# Altium footprint library PC817.PcbLib: 1 footprints
Each footprint in its own frame and in the unit in brackets; x right, y up, seen from the top. Pads: shape width x height; smd on the part's side, far side on the other; paste and mask are expansions set on the pad; w line width, h text height; cw(c..) or ccw(c..) is an arc to the next point about the centre after c.
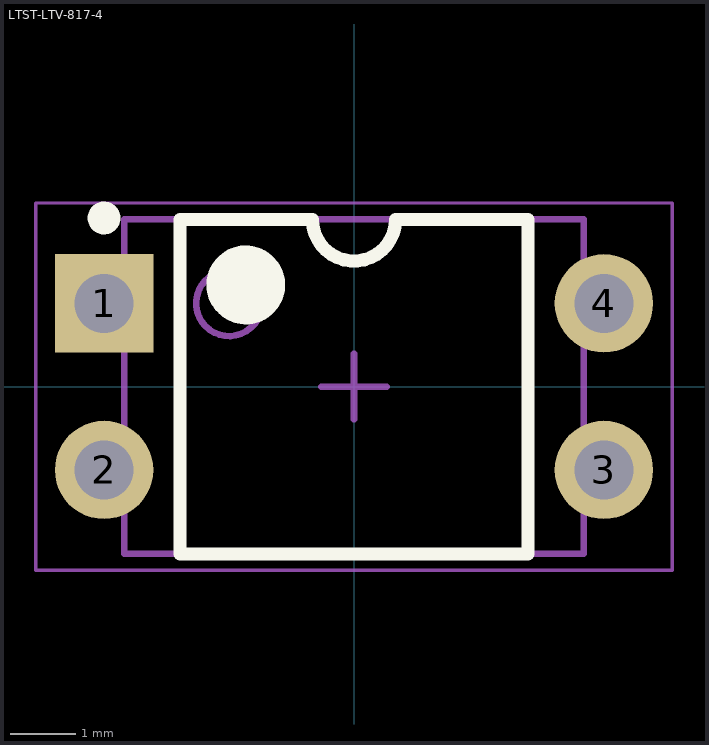
[diagram p0: the footprint, top view; thin cyan lines are the x and y axes]

## LTST-LTV-817-4 [mm] "DIP, 4-Leads, Body 7x5.1mm, Pitch 2.54mm"
height 4.5
pads (4):
  rect 1.5x1.5 hole 0.9: 1(-3.81,1.27)
  round 1.5 hole 0.9: 2(-3.81,-1.27) 3(3.81,-1.27) 4(3.81,1.27)
Top Overlay:
  circle w0.6: c-1.65,1.55 r0.3
  circle w0.25: c-3.81,2.57 r0.125
  lines w0.2: -2.65,-2.55 2.65,-2.55 2.65,2.55 0.635,2.55 cw(c0,2.55) -0.635,2.55 -2.65,2.55 -2.65,-2.55
Mechanical 13:
  circle w0.1: c-1.905,1.27 r0.5
  lines w0.1: -3.5,-2.55 3.5,-2.55 3.5,2.55 -3.5,2.55 -3.5,-2.55
Mechanical 15:
  lines w0.05: -4.85,-2.8 4.85,-2.8 4.85,2.8 -4.85,2.8 -4.85,-2.8
  lines w0.1: -0.5,0 0.5,0 ; 0,-0.5 0,0.5
3D body: height 4.5, standoff 0.5, extent -3.5,-2.55 3.5,2.55
3D body: height 0, standoff -1.6, extent 3.675,0.91 3.945,1.63
3D body: height 2.64, standoff 2.37, extent 3.5,0.77 3.945,1.77
3D body: height 2.37, standoff 0, extent 3.675,0.77 3.945,1.77
3D body: height 0, standoff -1.6, extent 3.675,-1.63 3.945,-0.91
3D body: height 2.64, standoff 2.37, extent 3.5,-1.77 3.945,-0.77
3D body: height 2.37, standoff 0, extent 3.675,-1.77 3.945,-0.77
3D body: height 0, standoff -1.6, extent -3.945,-1.63 -3.675,-0.91
3D body: height 2.64, standoff 2.37, extent -3.945,-1.77 -3.5,-0.77
3D body: height 2.37, standoff 0, extent -3.945,-1.77 -3.675,-0.77
3D body: height 0, standoff -1.6, extent -3.945,0.91 -3.675,1.63
3D body: height 2.64, standoff 2.37, extent -3.945,0.77 -3.5,1.77
3D body: height 2.37, standoff 0, extent -3.945,0.77 -3.675,1.77